# EAGLE library part 2N7002DW (library companion_board)
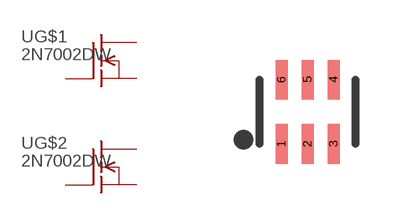
[diagram p2: symbol with the pads of SOT363; footprint SOT363]

Designator prefix -; gates G$1=IGFET-EN-GDS G$2=IGFET-EN-GDS

## 2N7002DW  [SOT363]
1  G$1:S  pas
2  G$1:G  pas
3  G$2:D  pas
4  G$2:S  pas
5  G$2:G  pas
6  G$1:D  pas

## Footprint SOT363 (pad centres in mm)
smd 0.3 x 0.99: 1 -0.65,-0.8; 2 0,-0.8; 3 0.65,-0.8; 4 0.65,0.81; 5 0,0.81; 6 -0.65,0.81